# EAGLE library part EEPROM-I2C (library Passives)
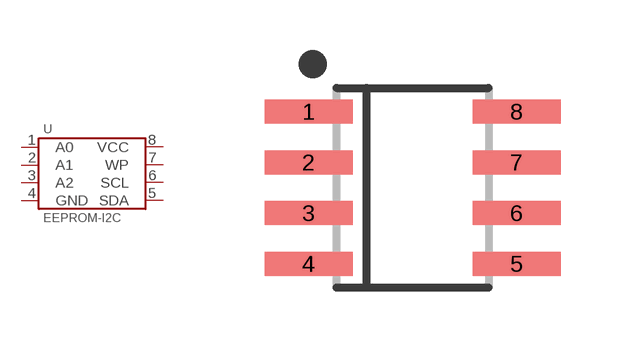
[diagram p13: symbol with the pads of SOIC-8; footprint SOIC-8]

Designator prefix U

## EEPROM-I2C  [SOIC-8]
1  A0
2  A1
3  A2
4  GND
5  SDA
6  SCL
7  WP
8  VCC

## Footprint SOIC-8 (pad centres in mm)
smd 2.2 x 0.6: 1 -2.6,1.905; 2 -2.6,0.635; 3 -2.6,-0.635; 4 -2.6,-1.905; 5 2.6,-1.905; 6 2.6,-0.635; 7 2.6,0.635; 8 2.6,1.905